# Altium schematic symbol library LUXCON 1_24B_Library.SchLib: 56 symbols
Pins are listed as number, name and electrical type; pins without a type are passive.

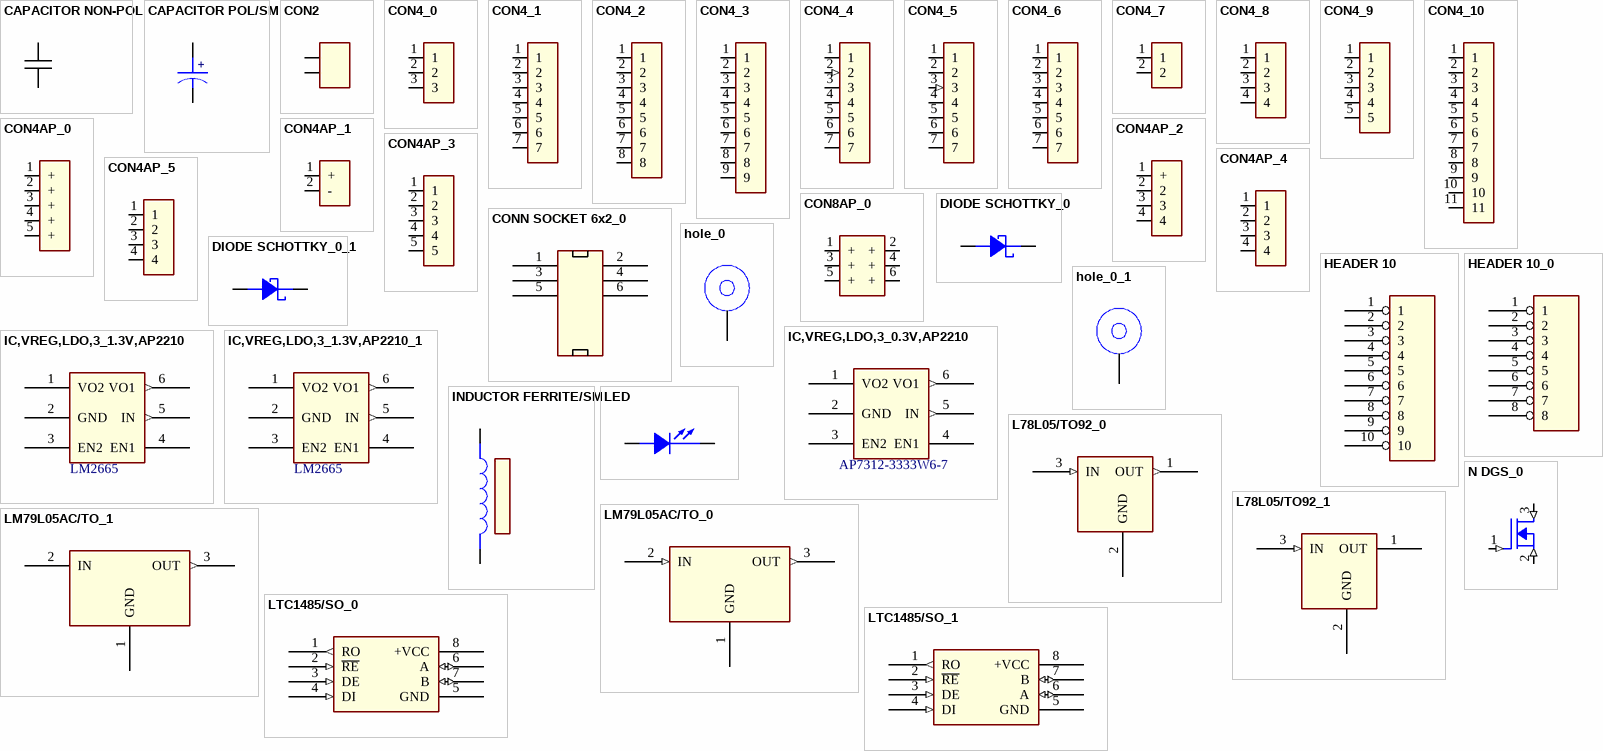
[diagram p0: symbols CAPACITOR NON-POL to N DGS_0]

## CAPACITOR NON-POL
designator C?
Name: CAPACITOR NON-POL.Normal; Pin Numbers Visible: False; EDIForiginalOrigin: (pt 0 0); EDIFviewName: NORMAL; Pin Names Visible: False
pins: 1, 2

## CAPACITOR POL/SM
designator C?
pins: 1, 2
text: +

## CON2
designator J?
Pin Numbers Visible: True; EDIForiginalOrigin: (pt 0 0); EDIFviewName: NORMAL; Pin Names Visible: True
pins: 1, 2

## CON4_0
designator J?
pins: 1, 2, 3

## CON4_1
designator J?
pins: 1, 2, 3, 4, 5, 6, 7

## CON4_2
designator J?
pins: 1, 2, 3, 4, 5, 6, 7, 8

## CON4_3
designator J?
pins: 1, 2, 3, 4, 5, 6, 7, 8, 9

## CON4_4
designator J?
pins: 1, 2 (in), 3, 4, 5, 6, 7

## CON4_5
designator J?
pins: 1, 2, 3 (in), 4, 5, 6, 7

## CON4_6
designator J?
pins: 1, 2, 3, 4, 5, 6, 7

## CON4_7
designator J?
pins: 1, 2

## CON4_8
designator J?
pins: 1, 2, 3, 4

## CON4_9
designator J?
pins: 1, 2, 3, 4, 5

## CON4_10
designator J?
pins: 1, 2, 3, 4, 5, 6, 7, 8, 9, 10, 11

## CON4AP_0
designator J?
pins: 1 +, 2 +, 3 +, 4 +, 5 +

## CON4AP_1
designator J?
pins: 1 +, 2 -

## CON4AP_2
designator J?
pins: 1 +, 2, 3, 4

## CON4AP_3
designator J?
pins: 1, 2, 3, 4, 5

## CON4AP_4
designator J?
pins: 1, 2, 3, 4

## CON4AP_5
designator J?
pins: 1, 2, 3, 4

## CON8AP_0
designator J?
pins: 1 +, 2 +, 3 +, 4 +, 5 +, 6 +

## CONN SOCKET 6x2_0
designator J?
pins: 1, 2 7, 3 2, 4 8, 5 3, 6 9

## DIODE SCHOTTKY_0
designator D?
pins: 1 CATHODE, 2 ANODE

## DIODE SCHOTTKY_0_1
designator D?
pins: 1 CATHODE, 2 ANODE

## HEADER 10
designator JP?
pins: 1, 2, 3, 4, 5, 6, 7, 8, 9, 10

## HEADER 10_0
designator JP?
pins: 1, 2, 3, 4, 5, 6, 7, 8

## hole_0
designator E?  (value not drawn)
OrCADviewType: LIBRARY_PART; Name: hole.Normal; Pin Numbers Visible: True; EDIForiginalOrigin: (pt 0 10); EDIFviewName: NORMAL; Pin Names Visible: True
pins: 1

## hole_0_1
designator E?  (value not drawn)
OrCADviewType: LIBRARY_PART; Name: hole.Normal; Pin Numbers Visible: True; EDIForiginalOrigin: (pt 0 10); EDIFviewName: NORMAL; Pin Names Visible: True
pins: 1

## IC,VREG,LDO,3_0.3V,AP2210
designator U?, comment AP7312-3333W6-7
IC,VREG,LDO,3.3V,AP2210; Vendor Part #: AP2210K-3.3TRG1; Vendor: Diodes Inc.; DigiKey Part #: AP2210K-3.3TRG1DICT-ND
footprint SOT-223
pins: 1 VO2, 2 GND (power), 3 EN2 (power), 4 EN1 (power), 5 IN (out), 6 VO1 (out)

## IC,VREG,LDO,3_1.3V,AP2210
designator U?, comment LM2665
footprint SOT-223
pins: 1 VO2, 2 GND (power), 3 EN2 (power), 4 EN1 (power), 5 IN (out), 6 VO1 (out)

## IC,VREG,LDO,3_1.3V,AP2210_1
designator U?, comment LM2665
footprint SOT-223
pins: 1 VO2, 2 GND (power), 3 EN2 (power), 4 EN1 (power), 5 IN (out), 6 VO1 (out)

## INDUCTOR FERRITE/SM
designator L?
pins: 1, 2

## L78L05/TO92_0
designator U?
pins: 1 OUT (out), 2 GND (power), 3 IN (in)

## L78L05/TO92_1
designator U?
pins: 1 OUT (power), 2 GND (power), 3 IN (in)

## LED
designator D?
pins: 1 ANODE, 2 CATHODE

## LM79L05AC/TO_0
designator U?
pins: 1 GND, 2 IN (in), 3 OUT (out)

## LM79L05AC/TO_1
designator U?
pins: 1 GND, 2 IN (power), 3 OUT (out)

## LTC1485/SO_0
designator U?
pins: 1 RO (out), 2 ~{RE} (in), 3 DE (in), 4 DI (in), 5 GND (power), 6 A (io), 7 B (io), 8 +VCC (power)

## LTC1485/SO_1
designator U?
pins: 1 RO (out), 2 ~{RE} (in), 3 DE (in), 4 DI (in), 5 GND (power), 6 A (io), 7 B (io), 8 +VCC (power)

## N DGS_0
designator Q?
pins: 1 GATE (in), 2 SOURCE (in), 3 DRAIN (in)

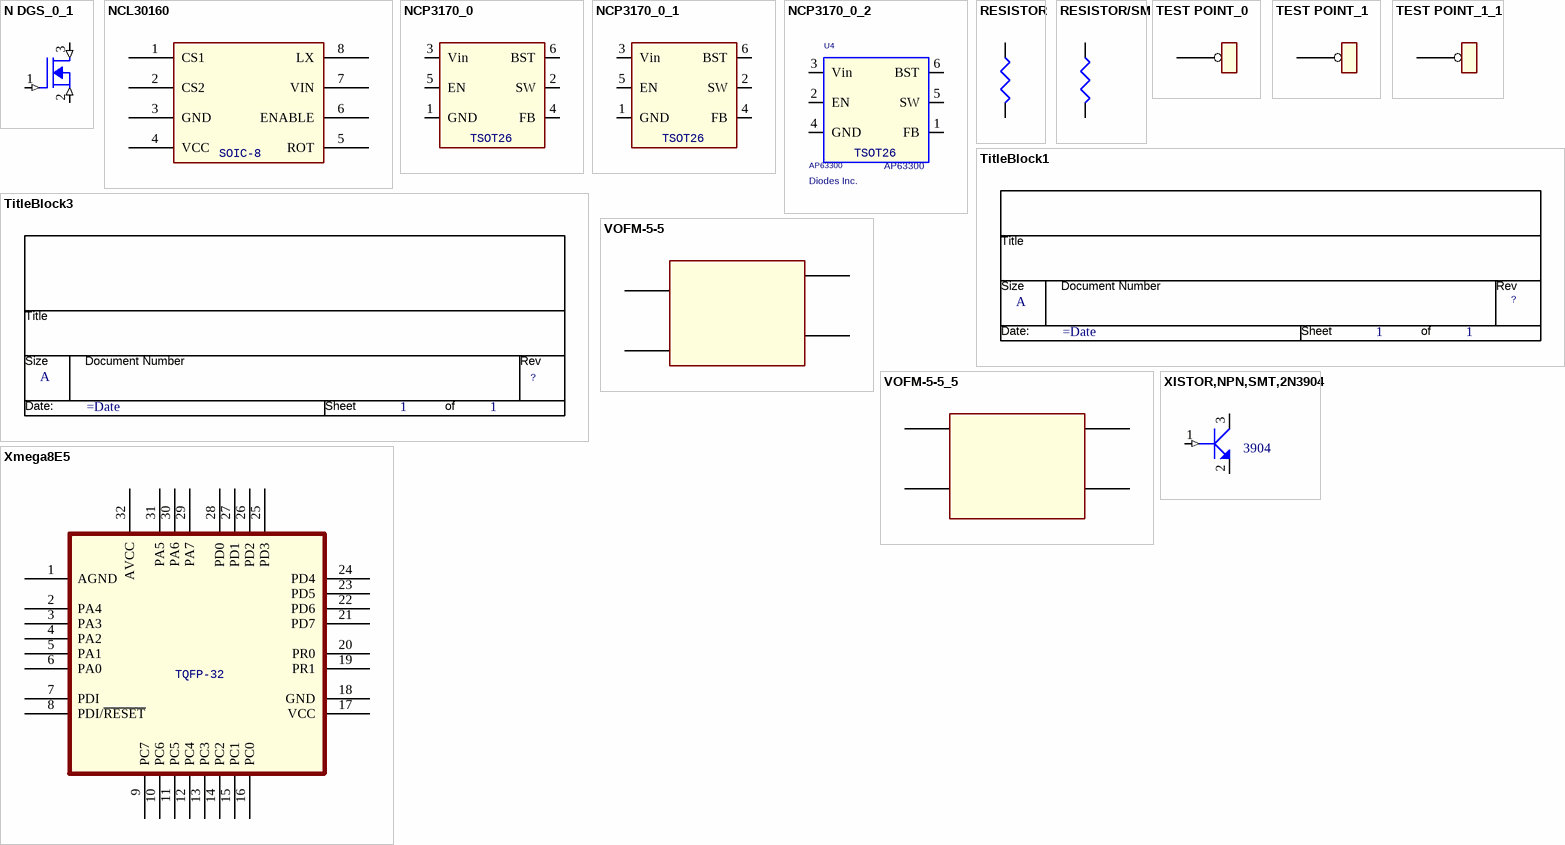
[diagram p1: symbols N DGS_0_1 to Xmega8E5]

## N DGS_0_1
designator Q?
pins: 1 GATE (in), 2 SOURCE (in), 3 DRAIN (in)

## NCL30160
designator U?
footprint SOIC-8
pins: 1 CS1, 2 CS2, 3 GND (power), 4 VCC, 5 ROT, 6 ENABLE, 7 VIN (power), 8 LX
text: SOIC-8

## NCP3170_0
designator U?
footprint SOIC-8
pins: 1 GND (power), 2 SW, 3 Vin (power), 4 FB, 5 EN, 6 BST (power)
text: TSOT26

## NCP3170_0_1
designator U?
footprint SOIC-8
pins: 1 GND (power), 2 SW, 3 Vin (power), 4 FB, 5 EN, 6 BST (power)
text: TSOT26

## NCP3170_0_2
designator U4, comment AP63300  Mfg: Diodes Inc.
PCB Footprint: SOIC-8; P/N: AP63300
footprint SOIC-8
pins: 1 FB, 2 EN, 3 Vin (power), 4 GND (power), 5 SW, 6 BST (power)
text: TSOT26

## RESISTOR
designator R?
pins: 1, 2

## RESISTOR/SM
designator R?
pins: 1, 2

## TEST POINT_0
designator TP?
EDIFviewName: NORMAL; EDIForiginalOrigin: (pt 0 0); Pin Names Visible: True; Name: TEST POINT.Normal; OrCADviewType: LIBRARY_PART; Pin Numbers Visible: True
pins: 1

## TEST POINT_1
designator TP?
OrCADviewType: LIBRARY_PART; Name: TEST POINT.Normal; Pin Numbers Visible: True; EDIForiginalOrigin: (pt 0 0); EDIFviewName: NORMAL; Pin Names Visible: True
pins: 1

## TEST POINT_1_1
designator TP?
OrCADviewType: LIBRARY_PART; Name: TEST POINT.Normal; Pin Numbers Visible: True; EDIForiginalOrigin: (pt 0 0); EDIFviewName: NORMAL; Pin Names Visible: True
pins: 1

## TitleBlock1
designator *  Page Size: A  Page Number: 1  (hidden comment: *)  (graphical)
Page Create Date: March  8, 1995; RevCode: ?; Page Count: 1; Page Modify Date: =Date
text: Title; Size; Document Number; Rev; Date:; Sheet; of

## TitleBlock3
designator *  Page Size: A  Page Number: 1  (hidden comment: *)  (graphical)
Page Create Date: March  8, 1995; RevCode: ?; Page Count: 1; Page Modify Date: =Date
text: Title; Size; Document Number; Rev; Date:; Sheet; of

## VOFM-5-5
designator PS?
Pin Numbers Visible: True; EDIForiginalOrigin: (pt 0 0); EDIFviewName: NORMAL; Pin Names Visible: True
pins: +Vo, -Vo, ACL, ACN

## VOFM-5-5_5
designator PS?
EDIFviewName: NORMAL; EDIForiginalOrigin: (pt 0 0); Pin Names Visible: True; Pin Numbers Visible: True
pins: +Vo, -Vo, ACL, ACN

## XISTOR,NPN,SMT,2N3904
designator Q?, comment 3904
XISTOR,NPN,SMT,2N3904; Vendor Part #: MMBT3904LT1; Vendor: Motorola; DigiKey Part #: MMBT3904DICT-ND
footprint SOT23P
pins: 1 BASE (in), 2 EMITTER, 3 COLLECTOR

## Xmega8E5
designator U?
footprint TQFP-32
pins: 1 AGND (power), 2 PA4, 3 PA3, 4 PA2, 5 PA1, 6 PA0, 7 PDI, 8 PDI/~{RESET}, 9 PC7, 10 PC6, 11 PC5, 12 PC4, 13 PC3, 14 PC2, 15 PC1, 16 PC0, 17 VCC (power), 18 GND (power), 19 PR1, 20 PR0, 21 PD7, 22 PD6, 23 PD5, 24 PD4, 25 PD3, 26 PD2, 27 PD1, 28 PD0, 29 PA7, 30 PA6, 31 PA5, 32 AVCC (power)
text: TQFP-32